# Altium schematic symbol library lora.SchLib: 3 symbols
Pins are listed as number, name and electrical type; pins without a type are passive.

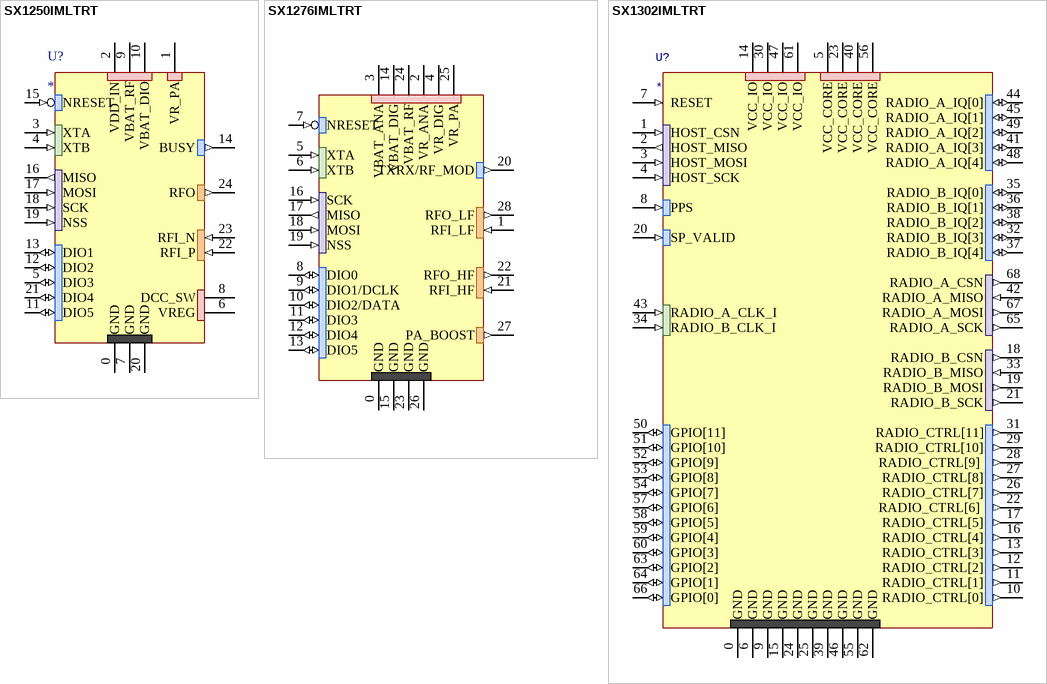
[diagram p0: symbols SX1250IMLTRT to SX1302IMLTRT]

## SX1250IMLTRT
designator U?
Sub-GHz RF Front End device. Supports up to +22 dBm output power on-chip
footprint QFN-24
pins: 0 GND (power), 1 VR_PA (power), 2 VDD_IN (power), 3 XTA (in), 4 XTB (in), 5 DIO3 (io), 6 VREG (power), 7 GND (power), 8 DCC_SW (power), 9 VBAT_RF (power), 10 VBAT_DIO (power), 11 DIO5 (io), 12 DIO2 (io), 13 DIO1 (io), 14 BUSY (out), 15 NRESET (in), 16 MISO (out), 17 MOSI (in), 18 SCK (in), 19 NSS (in), 20 GND (power), 21 DIO4 (io), 22 RFI_P (in), 23 RFI_N (in), 24 RFO (out)

## SX1276IMLTRT
designator U?  (value not drawn)
137 MHz to 1020 MHz Low Power Long Range Transceiver
footprint QFN-28
pins: 0 GND (power), 1 RFI_LF (in), 2 VR_ANA (power), 3 VBAT_ANA (power), 4 VR_DIG (power), 5 XTA (in), 6 XTB (in), 7 NRESET (in), 8 DIO0 (io), 9 DIO1/DCLK (io), 10 DIO2/DATA (io), 11 DIO3 (io), 12 DIO4 (io), 13 DIO5 (io), 14 VBAT_DIG (power), 15 GND (power), 16 SCK (in), 17 MISO (out), 18 MOSI (in), 19 NSS (in), 20 TXRX/RF_MOD (out), 21 RFI_HF (in), 22 RFO_HF (out), 23 GND (power), 24 VBAT_RF (power), 25 VR_PA (power), 26 GND (power), 27 PA_BOOST (out), 28 RFO_LF (out)

## SX1302IMLTRT
designator U?
Baseband LoRa chip for gateways; ComponentLink1Description: Mouser; ComponentLink1URL: https://www.mouser.es/ProductDetail/Semtech/SX1302IMLTRT?qs=bZr6mbWTK5nALa%252B96PTK0Q%3D%3D
footprint QFN-68
pins: 0 GND (power) "GND Thermal Pad", 1 HOST_CSN (in), 2 HOST_MISO (out) "External HOST SPI MISO pin", 3 HOST_MOSI (in) "External HOST SPI MOSI pin", 4 HOST_SCK (in) "External HOST SPI SCK pin", 5 VCC_CORE (power) "Core supply", 6 GND (power) "External HOST SPI CSN pin", 7 RESET (in) "Asynchronous Reset Input", 8 PPS (in) "PPS input from GPS", 9 GND (power), 10 RADIO_CTRL[0] (out) "Radio A Enable LDO", 11 RADIO_CTRL[1] (out) "Radio A Enable LNA and control switch", 12 RADIO_CTRL[2] (out) "Radio A Enable PA and control switch", 13 RADIO_CTRL[3] (out) "Radio A Reset", 14 VCC_IO (power) "IO supply", 15 GND (power), 16 RADIO_CTRL[4] (out) "Radio A PA gain_0", 17 RADIO_CTRL[5] (out) "Radio A PA gain_1", 18 RADIO_B_CSN (out) "Radio B SPI CSN pin", 19 RADIO_B_MOSI (out) "Radio B SPI MOSI pin", 20 SP_VALID (in) "Stream synchronization for FPGA", 21 RADIO_B_SCK (out) "Radio B SPI SCK pin", 22 RADIO_CTRL[6]  (out) "Radio B Enable LDO", 23 VCC_CORE (power) "Core supply", 24 GND (power), 25 GND (power), 26 RADIO_CTRL[7] (out) "Radio B Enable LNA and control switch", 27 RADIO_CTRL[8] (out) "Radio B Enable PA and control switch", 28 RADIO_CTRL[9]  (out) "Radio B Reset", 29 RADIO_CTRL[10] (out) "Radio B PA gain_0", 30 VCC_IO (power) "IO supply", 31 RADIO_CTRL[11] (out) "Radio B PA gain_1", 32 RADIO_B_IQ[3] (io), 33 RADIO_B_MISO (in), 34 RADIO_B_CLK_I (in), 35 RADIO_B_IQ[0] (io), 36 RADIO_B_IQ[1] (io), 37 RADIO_B_IQ[4] (io), 38 RADIO_B_IQ[2] (io), 39 GND (power), 40 VCC_CORE (power), 41 RADIO_A_IQ[3] (io), 42 RADIO_A_MISO (in), 43 RADIO_A_CLK_I (in), 44 RADIO_A_IQ[0] (io), 45 RADIO_A_IQ[1] (io), 46 GND (power), 47 VCC_IO (power), 48 RADIO_A_IQ[4] (io), 49 RADIO_A_IQ[2] (io), 50 GPIO[11] (io), 51 GPIO[10] (io), 52 GPIO[9] (io), 53 GPIO[8] (io), 54 GPIO[7] (io), 55 GND (power), 56 VCC_CORE (power), 57 GPIO[6] (io), 58 GPIO[5] (io), 59 GPIO[4] (io), 60 GPIO[3] (io), 61 VCC_IO (power), 62 GND (power), 63 GPIO[2] (io), 64 GPIO[1] (io), 65 RADIO_A_SCK (out), 66 GPIO[0] (io), 67 RADIO_A_MOSI (out), 68 RADIO_A_CSN (out)